# Altium integrated library TI Power Management Power Modules.IntLib: 831 symbols (part 21 of 44)
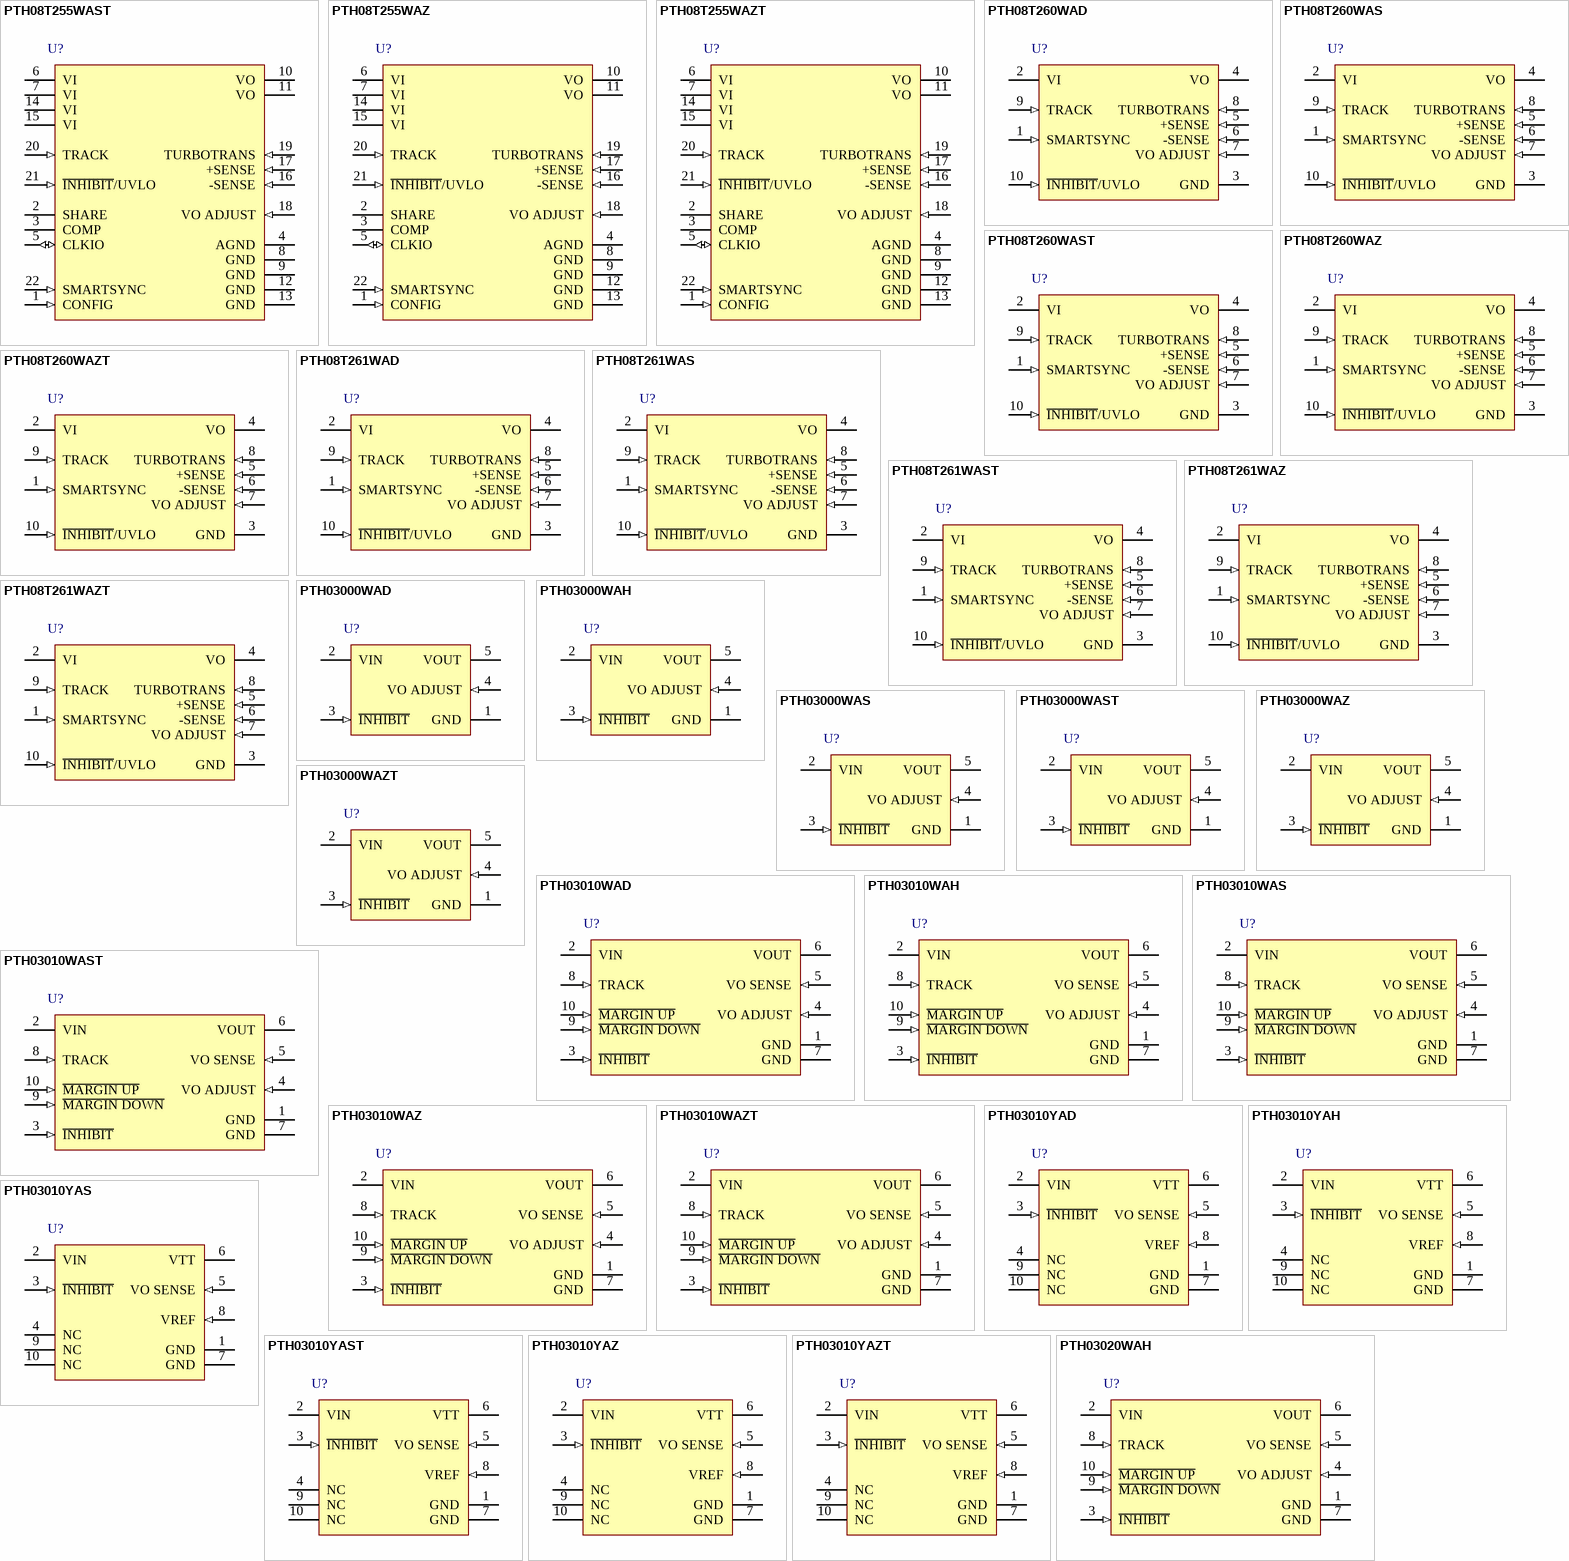
[diagram p43: symbols PTH08T255WAST to PTH03020WAH]

## PTH08T260WAZ
designator U?
3 A, 4.5 to 14 V Input, Non-Isolated, Wide Output, Adjustable Power Module with TurboTrans, -40 to 85 degC, 10-pin Module (BCM10), Pb-Free (RoHS); Manufacturer: Texas Instruments; PartNumber: PTH08T260WAZ; Iout(Max)(A): 3; Regulated Outputs(#): 1; SubFamily: Non-Isolated POL; Vin(Max)(V): 14; Vin(Min)(V): 4.5; VO Adjustable: TRUE; Vout(Max)(V): 5.5; Vout(Min)(V): 0.69; DatasheetVersion: SLTS272G; PackageVersion: 4207915/E; PackageReference: BCM10; PackageDescription: 10-Pin Plastic Special Shape, Body 15.75 x 18.92 mm; Supplier 1: Digi-Key; Supplier Part Number 1: 296-21406-ND; Supplier 2: Newark; Supplier Part Number 2: 27M0672; Supplier 3: Mouser; Supplier Part Number 3: 595-PTH08T260WAZ; Eco-Plan: Pb-Free (RoHS); Mounting Technology: Surface Mount; ComponentLink1Description: Manufacturer URL; ComponentLink1URL: http://www.ti.com/; ComponentLink2Description: Datasheet; ComponentLink2URL: http://www.ti.com/general/docs/lit/getliterature.tsp?genericPartNumber=PTH08T260W&fileType=pdf; ComponentLink3Description: Package Specification; ComponentLink3URL: http://www.ti.com/lit/ml/mpds292d/mpds292d.pdf; ComponentLink4Description: URL Link1; ComponentLink4URL: Samples URL:http://www.ti.com/product/pth08t260w#samples
footprint TI-BCM10_V (10-Leads Double Sided Module, Body 18.92x15.75mm)
pins: 1 SMARTSYNC (in) "This input pin sychronizes the switching frequency of the module to an external clock frequency. The SmartSync feature can be used to sychronize the switching fequency of multiple PTH04T230/231W modules, aiding EMI noise (See Datasheet)", 2 VI (power) "The positive input voltage power node to the module, which is referenced to common GND.", 3 GND (power) "This is the common ground connection for the VI and VO power connections. It is also the 0 Vdc reference for the control inputs.", 4 VO (power) "The regulated positive power output with respect to the GND", 5 +SENSE (in) "The sense input allows the regulation circuit to compensate for voltage drop between the module and the load. For optimal voltage accuracy, +Sense must be connected to VO, close to the load.", 6 -SENSE (in) "The sense input allows the regulation circuit to compensate for voltage drop between the module and the load. For optimal voltage accuracy, -Sense must be connected to GND (pin 3), very close to the module (within 10 cm).", 7 VO ADJUST (in) "A 0.05 W 1% resistor must be directly connected between this pin and pin 6 (- Sense) to set the output voltage to a value higher than 0.69 V. The temperature stability of the resistor should be 100 ppm/degreesC (or better). (See Datasheet)", 8 TURBOTRANS (in) "This input pin adjusts the transient response of the regulator. To activate the TurboTrans feature, a 1%, 0.05 W resistor must be connected between this pin and pin 5 (+Sense) very close to the module. For a given value of (See Datasheet)", 9 TRACK (in) "This is an analog control input that enables the output voltage to follow an external voltage. This pin becomes active typically 20 ms after the input voltage has been applied, and allows direct control of the output voltage (See Datasheet)", 10 ~{INHIBIT}/UVLO (in) "The Inhibit pin is an open-collector/drain, negative logic input that is referenced to GND. Applying a low level ground signal to this input disables the module’s output and turns off the output voltage. When the Inhibit (See Datasheet)"

## PTH08T260WAZT
designator U?
3 A, 4.5 to 14 V Input, Non-Isolated, Wide Output, Adjustable Power Module with TurboTrans, -40 to 85 degC, 10-pin Module (BCM10), Pb-Free (RoHS); Manufacturer: Texas Instruments; PartNumber: PTH08T260WAZT; Iout(Max)(A): 3; Regulated Outputs(#): 1; SubFamily: Non-Isolated POL; Vin(Max)(V): 14; Vin(Min)(V): 4.5; VO Adjustable: TRUE; Vout(Max)(V): 5.5; Vout(Min)(V): 0.69; DatasheetVersion: SLTS272G; PackageVersion: 4207915/E; PackageReference: BCM10; PackageDescription: 10-Pin Plastic Special Shape, Body 15.75 x 18.92 mm; Supplier 1: Digi-Key; Supplier Part Number 1: PTH08T260WAZT-ND; Supplier 2: Newark; Supplier Part Number 2: 27M0673; Supplier 3: Mouser; Supplier Part Number 3: 595-PTH08T260WAZT; Eco-Plan: Pb-Free (RoHS); Mounting Technology: Surface Mount; ComponentLink1Description: Manufacturer URL; ComponentLink1URL: http://www.ti.com/; ComponentLink2Description: Datasheet; ComponentLink2URL: http://www.ti.com/general/docs/lit/getliterature.tsp?genericPartNumber=PTH08T260W&fileType=pdf; ComponentLink3Description: Package Specification; ComponentLink3URL: http://www.ti.com/lit/ml/mpds292d/mpds292d.pdf; ComponentLink4Description: URL Link1; ComponentLink4URL: Samples URL:http://www.ti.com/product/pth08t260w#samples
footprint TI-BCM10_V (10-Leads Double Sided Module, Body 18.92x15.75mm)
pins: 1 SMARTSYNC (in) "This input pin sychronizes the switching frequency of the module to an external clock frequency. The SmartSync feature can be used to sychronize the switching fequency of multiple PTH04T230/231W modules, aiding EMI noise (See Datasheet)", 2 VI (power) "The positive input voltage power node to the module, which is referenced to common GND.", 3 GND (power) "This is the common ground connection for the VI and VO power connections. It is also the 0 Vdc reference for the control inputs.", 4 VO (power) "The regulated positive power output with respect to the GND", 5 +SENSE (in) "The sense input allows the regulation circuit to compensate for voltage drop between the module and the load. For optimal voltage accuracy, +Sense must be connected to VO, close to the load.", 6 -SENSE (in) "The sense input allows the regulation circuit to compensate for voltage drop between the module and the load. For optimal voltage accuracy, -Sense must be connected to GND (pin 3), very close to the module (within 10 cm).", 7 VO ADJUST (in) "A 0.05 W 1% resistor must be directly connected between this pin and pin 6 (- Sense) to set the output voltage to a value higher than 0.69 V. The temperature stability of the resistor should be 100 ppm/degreesC (or better). (See Datasheet)", 8 TURBOTRANS (in) "This input pin adjusts the transient response of the regulator. To activate the TurboTrans feature, a 1%, 0.05 W resistor must be connected between this pin and pin 5 (+Sense) very close to the module. For a given value of (See Datasheet)", 9 TRACK (in) "This is an analog control input that enables the output voltage to follow an external voltage. This pin becomes active typically 20 ms after the input voltage has been applied, and allows direct control of the output voltage (See Datasheet)", 10 ~{INHIBIT}/UVLO (in) "The Inhibit pin is an open-collector/drain, negative logic input that is referenced to GND. Applying a low level ground signal to this input disables the module’s output and turns off the output voltage. When the Inhibit (See Datasheet)"

## PTH08T261WAD
designator U?
3 A, 4.5 to 14 V Input, Ceramic Cap Version, Non-Iso, Wide Output, Adjust Power Module with TurboTrans, -40 to 85 degC, 10-pin Module (ECL10), Pb-Free (RoHS); Manufacturer: Texas Instruments; PartNumber: PTH08T261WAD; Iout(Max)(A): 3; Regulated Outputs(#): 1; SubFamily: Non-Isolated POL; Vin(Max)(V): 14; Vin(Min)(V): 4.5; VO Adjustable: TRUE; Vout(Max)(V): 5.5; Vout(Min)(V): 0.69; DatasheetVersion: SLTS272G; PackageVersion: 4207913/D; PackageReference: ECL10; PackageDescription: 10-Pin Plastic Special Shape, Body 15.75 x 18.92 mm; Supplier 1: Digi-Key; Supplier Part Number 1: 296-21539-ND; Supplier 2: Farnell; Supplier Part Number 2: 1659629; Supplier 3: Newark; Supplier Part Number 3: 12P7789; Supplier 4: Newark; Supplier Part Number 4: 31M0359; Supplier 5: Mouser; Supplier Part Number 5: 595-PTH08T261WAD; Eco-Plan: Pb-Free (RoHS); Mounting Technology: Through Hole; ComponentLink1Description: Manufacturer URL; ComponentLink1URL: http://www.ti.com/; ComponentLink2Description: Datasheet; ComponentLink2URL: http://www.ti.com/general/docs/lit/getliterature.tsp?genericPartNumber=PTH08T261W&fileType=pdf; ComponentLink3Description: Package Specification; ComponentLink3URL: http://www.ti.com/litv/pdf/mpds290c; ComponentLink4Description: URL Link1; ComponentLink4URL: Samples URL:http://www.ti.com/product/pth08t261w#samples
footprint TI-ECL10_V (Module, 10-Leads, Body 18.92x15.75 mm)
pins: 1 SMARTSYNC (in) "This input pin sychronizes the switching frequency of the module to an external clock frequency. The SmartSync feature can be used to sychronize the switching fequency of multiple PTH04T230/231W modules, aiding EMI noise (See Datasheet)", 2 VI (power) "The positive input voltage power node to the module, which is referenced to common GND.", 3 GND (power) "This is the common ground connection for the VI and VO power connections. It is also the 0 Vdc reference for the control inputs.", 4 VO (power) "The regulated positive power output with respect to the GND", 5 +SENSE (in) "The sense input allows the regulation circuit to compensate for voltage drop between the module and the load. For optimal voltage accuracy, +Sense must be connected to VO, close to the load.", 6 -SENSE (in) "The sense input allows the regulation circuit to compensate for voltage drop between the module and the load. For optimal voltage accuracy, -Sense must be connected to GND (pin 3), very close to the module (within 10 cm).", 7 VO ADJUST (in) "A 0.05 W 1% resistor must be directly connected between this pin and pin 6 (- Sense) to set the output voltage to a value higher than 0.69 V. The temperature stability of the resistor should be 100 ppm/degreesC (or better). (See Datasheet)", 8 TURBOTRANS (in) "This input pin adjusts the transient response of the regulator. To activate the TurboTrans feature, a 1%, 0.05 W resistor must be connected between this pin and pin 5 (+Sense) very close to the module. For a given value of (See Datasheet)", 9 TRACK (in) "This is an analog control input that enables the output voltage to follow an external voltage. This pin becomes active typically 20 ms after the input voltage has been applied, and allows direct control of the output voltage (See Datasheet)", 10 ~{INHIBIT}/UVLO (in) "The Inhibit pin is an open-collector/drain, negative logic input that is referenced to GND. Applying a low level ground signal to this input disables the module’s output and turns off the output voltage. When the Inhibit (See Datasheet)"

## PTH08T261WAS
designator U?
3 A, 4.5 to 14 V Input, Ceramic Cap Version, Non-Iso, Wide Output, Adjust Power Module with TurboTrans, -40 to 85 degC, 10-pin Module (ECM10); Manufacturer: Texas Instruments; PartNumber: PTH08T261WAS; Eco-Plan: TBD; Iout(Max)(A): 3; Regulated Outputs(#): 1; SubFamily: Non-Isolated POL; Vin(Max)(V): 14; Vin(Min)(V): 4.5; VO Adjustable: TRUE; Vout(Max)(V): 5.5; Vout(Min)(V): 0.69; DatasheetVersion: SLTS272G; PackageVersion: 4207914/E; PackageReference: ECM10; PackageDescription: 10-Pin Plastic Special Shape, Body 15.75 x 18.92 mm; Supplier 1: Digi-Key; Supplier Part Number 1: 296-21540-ND; Supplier 2: Newark; Supplier Part Number 2: 31M0360; Supplier 3: Mouser; Supplier Part Number 3: 595-PTH08T261WAS; Mounting Technology: Surface Mount; ComponentLink1Description: Manufacturer URL; ComponentLink1URL: http://www.ti.com/; ComponentLink2Description: Datasheet; ComponentLink2URL: http://www.ti.com/general/docs/lit/getliterature.tsp?genericPartNumber=PTH08T261W&fileType=pdf; ComponentLink3Description: Package Specification; ComponentLink3URL: http://www.ti.com/litv/pdf/mpds291d; ComponentLink4Description: URL Link1; ComponentLink4URL: Samples URL:http://www.ti.com/product/pth08t261w#samples
footprint TI-ECM10_V (Module, 10-Leads, Body 18.92x15.75mm)
pins: 1 SMARTSYNC (in) "This input pin sychronizes the switching frequency of the module to an external clock frequency. The SmartSync feature can be used to sychronize the switching fequency of multiple PTH04T230/231W modules, aiding EMI noise (See Datasheet)", 2 VI (power) "The positive input voltage power node to the module, which is referenced to common GND.", 3 GND (power) "This is the common ground connection for the VI and VO power connections. It is also the 0 Vdc reference for the control inputs.", 4 VO (power) "The regulated positive power output with respect to the GND", 5 +SENSE (in) "The sense input allows the regulation circuit to compensate for voltage drop between the module and the load. For optimal voltage accuracy, +Sense must be connected to VO, close to the load.", 6 -SENSE (in) "The sense input allows the regulation circuit to compensate for voltage drop between the module and the load. For optimal voltage accuracy, -Sense must be connected to GND (pin 3), very close to the module (within 10 cm).", 7 VO ADJUST (in) "A 0.05 W 1% resistor must be directly connected between this pin and pin 6 (- Sense) to set the output voltage to a value higher than 0.69 V. The temperature stability of the resistor should be 100 ppm/degreesC (or better). (See Datasheet)", 8 TURBOTRANS (in) "This input pin adjusts the transient response of the regulator. To activate the TurboTrans feature, a 1%, 0.05 W resistor must be connected between this pin and pin 5 (+Sense) very close to the module. For a given value of (See Datasheet)", 9 TRACK (in) "This is an analog control input that enables the output voltage to follow an external voltage. This pin becomes active typically 20 ms after the input voltage has been applied, and allows direct control of the output voltage (See Datasheet)", 10 ~{INHIBIT}/UVLO (in) "The Inhibit pin is an open-collector/drain, negative logic input that is referenced to GND. Applying a low level ground signal to this input disables the module’s output and turns off the output voltage. When the Inhibit (See Datasheet)"

## PTH08T261WAST
designator U?
3 A, 4.5 to 14 V Input, Ceramic Cap Version, Non-Iso, Wide Output, Adjust Power Module with TurboTrans, -40 to 85 degC, 10-pin Module (ECM10); Manufacturer: Texas Instruments; PartNumber: PTH08T261WAST; Eco-Plan: TBD; Iout(Max)(A): 3; Regulated Outputs(#): 1; SubFamily: Non-Isolated POL; Vin(Max)(V): 14; Vin(Min)(V): 4.5; VO Adjustable: TRUE; Vout(Max)(V): 5.5; Vout(Min)(V): 0.69; DatasheetVersion: SLTS272G; PackageVersion: 4207914/E; PackageReference: ECM10; PackageDescription: 10-Pin Plastic Special Shape, Body 15.75 x 18.92 mm; Supplier 1: Digi-Key; Supplier Part Number 1: PTH08T261WAST-ND; Supplier 2: Mouser; Supplier Part Number 2: 595-PTH08T261WAST; Mounting Technology: Surface Mount; ComponentLink1Description: Manufacturer URL; ComponentLink1URL: http://www.ti.com/; ComponentLink2Description: Datasheet; ComponentLink2URL: http://www.ti.com/general/docs/lit/getliterature.tsp?genericPartNumber=PTH08T261W&fileType=pdf; ComponentLink3Description: Package Specification; ComponentLink3URL: http://www.ti.com/litv/pdf/mpds291d; ComponentLink4Description: URL Link1; ComponentLink4URL: Samples URL:http://www.ti.com/product/pth08t261w#samples
footprint TI-ECM10_V (Module, 10-Leads, Body 18.92x15.75mm)
pins: 1 SMARTSYNC (in) "This input pin sychronizes the switching frequency of the module to an external clock frequency. The SmartSync feature can be used to sychronize the switching fequency of multiple PTH04T230/231W modules, aiding EMI noise (See Datasheet)", 2 VI (power) "The positive input voltage power node to the module, which is referenced to common GND.", 3 GND (power) "This is the common ground connection for the VI and VO power connections. It is also the 0 Vdc reference for the control inputs.", 4 VO (power) "The regulated positive power output with respect to the GND", 5 +SENSE (in) "The sense input allows the regulation circuit to compensate for voltage drop between the module and the load. For optimal voltage accuracy, +Sense must be connected to VO, close to the load.", 6 -SENSE (in) "The sense input allows the regulation circuit to compensate for voltage drop between the module and the load. For optimal voltage accuracy, -Sense must be connected to GND (pin 3), very close to the module (within 10 cm).", 7 VO ADJUST (in) "A 0.05 W 1% resistor must be directly connected between this pin and pin 6 (- Sense) to set the output voltage to a value higher than 0.69 V. The temperature stability of the resistor should be 100 ppm/degreesC (or better). (See Datasheet)", 8 TURBOTRANS (in) "This input pin adjusts the transient response of the regulator. To activate the TurboTrans feature, a 1%, 0.05 W resistor must be connected between this pin and pin 5 (+Sense) very close to the module. For a given value of (See Datasheet)", 9 TRACK (in) "This is an analog control input that enables the output voltage to follow an external voltage. This pin becomes active typically 20 ms after the input voltage has been applied, and allows direct control of the output voltage (See Datasheet)", 10 ~{INHIBIT}/UVLO (in) "The Inhibit pin is an open-collector/drain, negative logic input that is referenced to GND. Applying a low level ground signal to this input disables the module’s output and turns off the output voltage. When the Inhibit (See Datasheet)"

## PTH08T261WAZ
designator U?
3 A, 4.5 to 14 V Input, Ceramic Cap Version, Non-Iso, Wide Output, Adjust Power Module with TurboTrans, -40 to 85 degC, 10-pin Module (BCM10), Pb-Free (RoHS); Manufacturer: Texas Instruments; PartNumber: PTH08T261WAZ; Iout(Max)(A): 3; Regulated Outputs(#): 1; SubFamily: Non-Isolated POL; Vin(Max)(V): 14; Vin(Min)(V): 4.5; VO Adjustable: TRUE; Vout(Max)(V): 5.5; Vout(Min)(V): 0.69; DatasheetVersion: SLTS272G; PackageVersion: 4207915/E; PackageReference: BCM10; PackageDescription: 10-Pin Plastic Special Shape, Body 15.75 x 18.92 mm; Supplier 1: Digi-Key; Supplier Part Number 1: 296-21590-ND; Supplier 2: Newark; Supplier Part Number 2: 31M0362; Supplier 3: Mouser; Supplier Part Number 3: 595-PTH08T261WAZ; Eco-Plan: Pb-Free (RoHS); Mounting Technology: Surface Mount; ComponentLink1Description: Manufacturer URL; ComponentLink1URL: http://www.ti.com/; ComponentLink2Description: Datasheet; ComponentLink2URL: http://www.ti.com/general/docs/lit/getliterature.tsp?genericPartNumber=PTH08T261W&fileType=pdf; ComponentLink3Description: Package Specification; ComponentLink3URL: http://www.ti.com/lit/ml/mpds292d/mpds292d.pdf; ComponentLink4Description: URL Link1; ComponentLink4URL: Samples URL:http://www.ti.com/product/pth08t261w#samples
footprint TI-BCM10_V (10-Leads Double Sided Module, Body 18.92x15.75mm)
pins: 1 SMARTSYNC (in) "This input pin sychronizes the switching frequency of the module to an external clock frequency. The SmartSync feature can be used to sychronize the switching fequency of multiple PTH04T230/231W modules, aiding EMI noise (See Datasheet)", 2 VI (power) "The positive input voltage power node to the module, which is referenced to common GND.", 3 GND (power) "This is the common ground connection for the VI and VO power connections. It is also the 0 Vdc reference for the control inputs.", 4 VO (power) "The regulated positive power output with respect to the GND", 5 +SENSE (in) "The sense input allows the regulation circuit to compensate for voltage drop between the module and the load. For optimal voltage accuracy, +Sense must be connected to VO, close to the load.", 6 -SENSE (in) "The sense input allows the regulation circuit to compensate for voltage drop between the module and the load. For optimal voltage accuracy, -Sense must be connected to GND (pin 3), very close to the module (within 10 cm).", 7 VO ADJUST (in) "A 0.05 W 1% resistor must be directly connected between this pin and pin 6 (- Sense) to set the output voltage to a value higher than 0.69 V. The temperature stability of the resistor should be 100 ppm/degreesC (or better). (See Datasheet)", 8 TURBOTRANS (in) "This input pin adjusts the transient response of the regulator. To activate the TurboTrans feature, a 1%, 0.05 W resistor must be connected between this pin and pin 5 (+Sense) very close to the module. For a given value of (See Datasheet)", 9 TRACK (in) "This is an analog control input that enables the output voltage to follow an external voltage. This pin becomes active typically 20 ms after the input voltage has been applied, and allows direct control of the output voltage (See Datasheet)", 10 ~{INHIBIT}/UVLO (in) "The Inhibit pin is an open-collector/drain, negative logic input that is referenced to GND. Applying a low level ground signal to this input disables the module’s output and turns off the output voltage. When the Inhibit (See Datasheet)"

## PTH08T261WAZT
designator U?
3 A, 4.5 to 14 V Input, Ceramic Cap Version, Non-Iso, Wide Output, Adjust Power Module with TurboTrans, -40 to 85 degC, 10-pin Module (BCM10), Pb-Free (RoHS); Manufacturer: Texas Instruments; PartNumber: PTH08T261WAZT; Iout(Max)(A): 3; Regulated Outputs(#): 1; SubFamily: Non-Isolated POL; Vin(Max)(V): 14; Vin(Min)(V): 4.5; VO Adjustable: TRUE; Vout(Max)(V): 5.5; Vout(Min)(V): 0.69; DatasheetVersion: SLTS272G; PackageVersion: 4207915/E; PackageReference: BCM10; PackageDescription: 10-Pin Plastic Special Shape, Body 15.75 x 18.92 mm; Supplier 1: Digi-Key; Supplier Part Number 1: PTH08T261WAZT-ND; Supplier 2: Newark; Supplier Part Number 2: 31M0363; Supplier 3: Mouser; Supplier Part Number 3: 595-PTH08T261WAZT; Eco-Plan: Pb-Free (RoHS); Mounting Technology: Surface Mount; ComponentLink1Description: Manufacturer URL; ComponentLink1URL: http://www.ti.com/; ComponentLink2Description: Datasheet; ComponentLink2URL: http://www.ti.com/general/docs/lit/getliterature.tsp?genericPartNumber=PTH08T261W&fileType=pdf; ComponentLink3Description: Package Specification; ComponentLink3URL: http://www.ti.com/lit/ml/mpds292d/mpds292d.pdf; ComponentLink4Description: URL Link1; ComponentLink4URL: Samples URL:http://www.ti.com/product/pth08t261w#samples
footprint TI-BCM10_V (10-Leads Double Sided Module, Body 18.92x15.75mm)
pins: 1 SMARTSYNC (in) "This input pin sychronizes the switching frequency of the module to an external clock frequency. The SmartSync feature can be used to sychronize the switching fequency of multiple PTH04T230/231W modules, aiding EMI noise (See Datasheet)", 2 VI (power) "The positive input voltage power node to the module, which is referenced to common GND.", 3 GND (power) "This is the common ground connection for the VI and VO power connections. It is also the 0 Vdc reference for the control inputs.", 4 VO (power) "The regulated positive power output with respect to the GND", 5 +SENSE (in) "The sense input allows the regulation circuit to compensate for voltage drop between the module and the load. For optimal voltage accuracy, +Sense must be connected to VO, close to the load.", 6 -SENSE (in) "The sense input allows the regulation circuit to compensate for voltage drop between the module and the load. For optimal voltage accuracy, -Sense must be connected to GND (pin 3), very close to the module (within 10 cm).", 7 VO ADJUST (in) "A 0.05 W 1% resistor must be directly connected between this pin and pin 6 (- Sense) to set the output voltage to a value higher than 0.69 V. The temperature stability of the resistor should be 100 ppm/degreesC (or better). (See Datasheet)", 8 TURBOTRANS (in) "This input pin adjusts the transient response of the regulator. To activate the TurboTrans feature, a 1%, 0.05 W resistor must be connected between this pin and pin 5 (+Sense) very close to the module. For a given value of (See Datasheet)", 9 TRACK (in) "This is an analog control input that enables the output voltage to follow an external voltage. This pin becomes active typically 20 ms after the input voltage has been applied, and allows direct control of the output voltage (See Datasheet)", 10 ~{INHIBIT}/UVLO (in) "The Inhibit pin is an open-collector/drain, negative logic input that is referenced to GND. Applying a low level ground signal to this input disables the module’s output and turns off the output voltage. When the Inhibit (See Datasheet)"

## PTH03000WAD
designator U?
6 A, 3.3 V Input Wide-Output Adjust Plug-in Power Module, -40 to 85 degC, 5-pin Module (EUS5), Pb-Free (RoHS); Manufacturer: Texas Instruments; PartNumber: PTH03000WAD; Iout(Max)(A): 6; Regulated Outputs(#): 1; SubFamily: Non-Isolated POL; Vin(Max)(V): 3.6; Vin(Min)(V): 3; VO Adjustable: TRUE; Vout(Max)(V): 2.5; Vout(Min)(V): 0.9; DatasheetVersion: SLTS200C; PackageVersion: 4204990-2/C; PackageReference: EUS5; PackageDescription: 5-Pin Plastic Special Shape, Body 12.57 x 18.92 mm; Supplier 1: Digi-Key; Supplier Part Number 1: 296-32711-ND; Supplier 2: Farnell; Supplier Part Number 2: 1103270; Supplier 3: Newark; Supplier Part Number 3: 69K0177; Supplier 4: Mouser; Supplier Part Number 4: 595-PTH03000WAD; Eco-Plan: Pb-Free (RoHS); Mounting Technology: Through Hole; ComponentLink1Description: Manufacturer URL; ComponentLink1URL: http://www.ti.com/; ComponentLink2Description: Datasheet; ComponentLink2URL: http://www.ti.com/general/docs/lit/getliterature.tsp?genericPartNumber=PTH03000W&fileType=pdf; ComponentLink3Description: Package Specification; ComponentLink3URL: http://www.ti.com/litv/pdf/mpds139b; ComponentLink4Description: URL Link1; ComponentLink4URL: Samples URL:http://www.ti.com/product/pth03000w#samples
footprint TI-EUS5_V (5-Leads, Plastic Special Shape, Body 18.92x12.57mm)
pins: 1 GND (power) "This is the common ground connection for the‘Vin’ and ‘Vout’ power connections. It is also the 0 VDC reference for the ‘Inhibit’ and ‘Vo Adjust’ control input.", 2 VIN (power) "The positive input voltage power node to the module, which is referenced to common GND.", 3 ~{INHIBIT} (in) "The Inhibit pin is an open-collector/drain negative logic input that is referenced to GND. Applying a lowlevel ground signal to this input disables the module’s output and turns off the output voltage. When the Inhibit (See Datasheet)", 4 VO ADJUST (in) "A 0.1 W 1 % resistor must be directly connected between this pin and the GND pin to set the output voltage to a value higher than 0.9 V. The temperature stability of the resistor should be 100 ppm/degreesC (or better). The (See Datasheet)", 5 VOUT (power) "The regulated positive power output with respect to the GND node."

## PTH03000WAH
designator U?
6 A, 3.3 V Input Wide-Output Adjust Plug-in Power Module, -40 to 85 degC, 5-pin Module (EUS5), Pb-Free (RoHS); Manufacturer: Texas Instruments; PartNumber: PTH03000WAH; Iout(Max)(A): 6; Regulated Outputs(#): 1; SubFamily: Non-Isolated POL; Vin(Max)(V): 3.6; Vin(Min)(V): 3; VO Adjustable: TRUE; Vout(Max)(V): 2.5; Vout(Min)(V): 0.9; DatasheetVersion: SLTS200C; PackageVersion: 4204990-2/C; PackageReference: EUS5; PackageDescription: 5-Pin Plastic Special Shape, Body 12.57 x 18.92 mm; Supplier 1: Digi-Key; Supplier Part Number 1: 296-20366-ND; Supplier 2: Farnell; Supplier Part Number 2: 1231998; Supplier 3: Newark; Supplier Part Number 3: 80K6125; Supplier 4: Mouser; Supplier Part Number 4: 595-PTH03000WAH; Eco-Plan: Pb-Free (RoHS); Mounting Technology: Through Hole; ComponentLink1Description: Manufacturer URL; ComponentLink1URL: http://www.ti.com/; ComponentLink2Description: Datasheet; ComponentLink2URL: http://www.ti.com/general/docs/lit/getliterature.tsp?genericPartNumber=PTH03000W&fileType=pdf; ComponentLink3Description: Package Specification; ComponentLink3URL: http://www.ti.com/litv/pdf/mpds139b; ComponentLink4Description: URL Link1; ComponentLink4URL: Samples URL:http://www.ti.com/product/pth03000w#samples
footprint TI-EUS5_V (5-Leads, Plastic Special Shape, Body 18.92x12.57mm)
pins: 1 GND (power) "This is the common ground connection for the‘Vin’ and ‘Vout’ power connections. It is also the 0 VDC reference for the ‘Inhibit’ and ‘Vo Adjust’ control input.", 2 VIN (power) "The positive input voltage power node to the module, which is referenced to common GND.", 3 ~{INHIBIT} (in) "The Inhibit pin is an open-collector/drain negative logic input that is referenced to GND. Applying a lowlevel ground signal to this input disables the module’s output and turns off the output voltage. When the Inhibit (See Datasheet)", 4 VO ADJUST (in) "A 0.1 W 1 % resistor must be directly connected between this pin and the GND pin to set the output voltage to a value higher than 0.9 V. The temperature stability of the resistor should be 100 ppm/degreesC (or better). The (See Datasheet)", 5 VOUT (power) "The regulated positive power output with respect to the GND node."

## PTH03000WAS
designator U?
6 A, 3.3 V Input Wide-Output Adjust Plug-in Power Module, -40 to 85 degC, 5-pin Module (EUT5); Manufacturer: Texas Instruments; PartNumber: PTH03000WAS; Eco-Plan: TBD; Iout(Max)(A): 6; Regulated Outputs(#): 1; SubFamily: Non-Isolated POL; Vin(Max)(V): 3.6; Vin(Min)(V): 3; VO Adjustable: TRUE; Vout(Max)(V): 2.5; Vout(Min)(V): 0.9; DatasheetVersion: SLTS200C; PackageVersion: 4204991-2/C; PackageReference: EUT5; PackageDescription: 5-Pin Plastic Special Shape, Body 12.57 x 18.92 mm; Supplier 1: Digi-Key; Supplier Part Number 1: 296-20367-ND; Supplier 2: Newark; Supplier Part Number 2: 82H5354; Supplier 3: Mouser; Supplier Part Number 3: 595-PTH03000WAS; Mounting Technology: Surface Mount; ComponentLink1Description: Manufacturer URL; ComponentLink1URL: http://www.ti.com/; ComponentLink2Description: Datasheet; ComponentLink2URL: http://www.ti.com/general/docs/lit/getliterature.tsp?genericPartNumber=PTH03000W&fileType=pdf; ComponentLink3Description: Package Specification; ComponentLink3URL: http://www.ti.com/lit/ml/mpds140b/mpds140b.pdf; ComponentLink4Description: URL Link1; ComponentLink4URL: Samples URL:http://www.ti.com/product/pth03000w#samples
footprint TI-EUT5_V (Module, 5-Leads, Body 18.92x12.57 mm)
pins: 1 GND (power) "This is the common ground connection for the‘Vin’ and ‘Vout’ power connections. It is also the 0 VDC reference for the ‘Inhibit’ and ‘Vo Adjust’ control input.", 2 VIN (power) "The positive input voltage power node to the module, which is referenced to common GND.", 3 ~{INHIBIT} (in) "The Inhibit pin is an open-collector/drain negative logic input that is referenced to GND. Applying a lowlevel ground signal to this input disables the module’s output and turns off the output voltage. When the Inhibit (See Datasheet)", 4 VO ADJUST (in) "A 0.1 W 1 % resistor must be directly connected between this pin and the GND pin to set the output voltage to a value higher than 0.9 V. The temperature stability of the resistor should be 100 ppm/degreesC (or better). The (See Datasheet)", 5 VOUT (power) "The regulated positive power output with respect to the GND node."

## PTH03000WAST
designator U?
6 A, 3.3 V Input Wide-Output Adjust Plug-in Power Module, -40 to 85 degC, 5-pin Module (EUT5); Manufacturer: Texas Instruments; PartNumber: PTH03000WAST; Eco-Plan: TBD; Iout(Max)(A): 6; Regulated Outputs(#): 1; SubFamily: Non-Isolated POL; Vin(Max)(V): 3.6; Vin(Min)(V): 3; VO Adjustable: TRUE; Vout(Max)(V): 2.5; Vout(Min)(V): 0.9; DatasheetVersion: SLTS200C; PackageVersion: 4204991-2/C; PackageReference: EUT5; PackageDescription: 5-Pin Plastic Special Shape, Body 12.57 x 18.92 mm; Supplier 1: Digi-Key; Supplier Part Number 1: PTH03000WAST-ND; Supplier 2: Newark; Supplier Part Number 2: 01J0621; Supplier 3: Mouser; Supplier Part Number 3: 595-PTH03000WAST; Mounting Technology: Surface Mount; ComponentLink1Description: Manufacturer URL; ComponentLink1URL: http://www.ti.com/; ComponentLink2Description: Datasheet; ComponentLink2URL: http://www.ti.com/general/docs/lit/getliterature.tsp?genericPartNumber=PTH03000W&fileType=pdf; ComponentLink3Description: Package Specification; ComponentLink3URL: http://www.ti.com/lit/ml/mpds140b/mpds140b.pdf; ComponentLink4Description: URL Link1; ComponentLink4URL: Samples URL:http://www.ti.com/product/pth03000w#samples
footprint TI-EUT5_V (Module, 5-Leads, Body 18.92x12.57 mm)
pins: 1 GND (power) "This is the common ground connection for the‘Vin’ and ‘Vout’ power connections. It is also the 0 VDC reference for the ‘Inhibit’ and ‘Vo Adjust’ control input.", 2 VIN (power) "The positive input voltage power node to the module, which is referenced to common GND.", 3 ~{INHIBIT} (in) "The Inhibit pin is an open-collector/drain negative logic input that is referenced to GND. Applying a lowlevel ground signal to this input disables the module’s output and turns off the output voltage. When the Inhibit (See Datasheet)", 4 VO ADJUST (in) "A 0.1 W 1 % resistor must be directly connected between this pin and the GND pin to set the output voltage to a value higher than 0.9 V. The temperature stability of the resistor should be 100 ppm/degreesC (or better). The (See Datasheet)", 5 VOUT (power) "The regulated positive power output with respect to the GND node."

## PTH03000WAZ
designator U?
6 A, 3.3 V Input Wide-Output Adjust Plug-in Power Module, -40 to 85 degC, 5-pin Module (EUT5), Pb-Free (RoHS); Manufacturer: Texas Instruments; PartNumber: PTH03000WAZ; Iout(Max)(A): 6; Regulated Outputs(#): 1; SubFamily: Non-Isolated POL; Vin(Max)(V): 3.6; Vin(Min)(V): 3; VO Adjustable: TRUE; Vout(Max)(V): 2.5; Vout(Min)(V): 0.9; DatasheetVersion: SLTS200C; PackageVersion: 4204991-2/C; PackageReference: EUT5; PackageDescription: 5-Pin Plastic Special Shape, Body 12.57 x 18.92 mm; Supplier 1: Digi-Key; Supplier Part Number 1: 296-20368-ND; Supplier 2: Farnell; Supplier Part Number 2: 1103272; Supplier 3: Newark; Supplier Part Number 3: 37K0693; Supplier 4: Mouser; Supplier Part Number 4: 595-PTH03000WAZ; Eco-Plan: Pb-Free (RoHS); Mounting Technology: Surface Mount; ComponentLink1Description: Manufacturer URL; ComponentLink1URL: http://www.ti.com/; ComponentLink2Description: Datasheet; ComponentLink2URL: http://www.ti.com/general/docs/lit/getliterature.tsp?genericPartNumber=PTH03000W&fileType=pdf; ComponentLink3Description: Package Specification; ComponentLink3URL: http://www.ti.com/lit/ml/mpds140b/mpds140b.pdf; ComponentLink4Description: URL Link1; ComponentLink4URL: Samples URL:http://www.ti.com/product/pth03000w#samples
footprint TI-EUT5_V (Module, 5-Leads, Body 18.92x12.57 mm)
pins: 1 GND (power) "This is the common ground connection for the‘Vin’ and ‘Vout’ power connections. It is also the 0 VDC reference for the ‘Inhibit’ and ‘Vo Adjust’ control input.", 2 VIN (power) "The positive input voltage power node to the module, which is referenced to common GND.", 3 ~{INHIBIT} (in) "The Inhibit pin is an open-collector/drain negative logic input that is referenced to GND. Applying a lowlevel ground signal to this input disables the module’s output and turns off the output voltage. When the Inhibit (See Datasheet)", 4 VO ADJUST (in) "A 0.1 W 1 % resistor must be directly connected between this pin and the GND pin to set the output voltage to a value higher than 0.9 V. The temperature stability of the resistor should be 100 ppm/degreesC (or better). The (See Datasheet)", 5 VOUT (power) "The regulated positive power output with respect to the GND node."

## PTH03000WAZT
designator U?
6 A, 3.3 V Input Wide-Output Adjust Plug-in Power Module, -40 to 85 degC, 5-pin Module (EUT5), Pb-Free (RoHS); Manufacturer: Texas Instruments; PartNumber: PTH03000WAZT; Iout(Max)(A): 6; Regulated Outputs(#): 1; SubFamily: Non-Isolated POL; Vin(Max)(V): 3.6; Vin(Min)(V): 3; VO Adjustable: TRUE; Vout(Max)(V): 2.5; Vout(Min)(V): 0.9; DatasheetVersion: SLTS200C; PackageVersion: 4204991-2/C; PackageReference: EUT5; PackageDescription: 5-Pin Plastic Special Shape, Body 12.57 x 18.92 mm; Supplier 1: Digi-Key; Supplier Part Number 1: PTH03000WAZT-ND; Supplier 2: Newark; Supplier Part Number 2: 37K0694; Supplier 3: Mouser; Supplier Part Number 3: 595-PTH03000WAZT; Eco-Plan: Pb-Free (RoHS); Mounting Technology: Surface Mount; ComponentLink1Description: Manufacturer URL; ComponentLink1URL: http://www.ti.com/; ComponentLink2Description: Datasheet; ComponentLink2URL: http://www.ti.com/general/docs/lit/getliterature.tsp?genericPartNumber=PTH03000W&fileType=pdf; ComponentLink3Description: Package Specification; ComponentLink3URL: http://www.ti.com/lit/ml/mpds140b/mpds140b.pdf; ComponentLink4Description: URL Link1; ComponentLink4URL: Samples URL:http://www.ti.com/product/pth03000w
footprint TI-EUT5_V (Module, 5-Leads, Body 18.92x12.57 mm)
pins: 1 GND (power) "This is the common ground connection for the‘Vin’ and ‘Vout’ power connections. It is also the 0 VDC reference for the ‘Inhibit’ and ‘Vo Adjust’ control input.", 2 VIN (power) "The positive input voltage power node to the module, which is referenced to common GND.", 3 ~{INHIBIT} (in) "The Inhibit pin is an open-collector/drain negative logic input that is referenced to GND. Applying a lowlevel ground signal to this input disables the module’s output and turns off the output voltage. When the Inhibit (See Datasheet)", 4 VO ADJUST (in) "A 0.1 W 1 % resistor must be directly connected between this pin and the GND pin to set the output voltage to a value higher than 0.9 V. The temperature stability of the resistor should be 100 ppm/degreesC (or better). The (See Datasheet)", 5 VOUT (power) "The regulated positive power output with respect to the GND node."

## PTH03010WAD
designator U?
15 A, 3.3 V Input Non-Isolated Wide-Output Adjust Power Module, -40 to 85 degC, 10-pin Module (EUH10), Pb-Free (RoHS); Manufacturer: Texas Instruments; PartNumber: PTH03010WAD; Iout(Max)(A): 15; Regulated Outputs(#): 1; SubFamily: Non-Isolated POL; Vin(Max)(V): 3.65; Vin(Min)(V): 2.95; VO Adjustable: TRUE; Vout(Max)(V): 2.5; Vout(Min)(V): 0.8; DatasheetVersion: SLTS203C; PackageVersion: 4204984-3/E; PackageReference: EUH10; PackageDescription: 10-Pin Plastic Special Shape, Body 15.75 x 34.8 mm; Supplier 1: Digi-Key; Supplier Part Number 1: 296-32712-ND; Supplier 2: Farnell; Supplier Part Number 2: 1103277; Supplier 3: Newark; Supplier Part Number 3: 63K6091; Supplier 4: Mouser; Supplier Part Number 4: 595-PTH03010WAD; Eco-Plan: Pb-Free (RoHS); Mounting Technology: Through Hole; ComponentLink1Description: Manufacturer URL; ComponentLink1URL: http://www.ti.com/; ComponentLink2Description: Datasheet; ComponentLink2URL: http://www.ti.com/general/docs/lit/getliterature.tsp?genericPartNumber=PTH03010W&fileType=pdf; ComponentLink3Description: Package Specification; ComponentLink3URL: http://www.ti.com/litv/pdf/mpds130d; ComponentLink4Description: URL Link1; ComponentLink4URL: Samples URL:http://www.ti.com/product/pth03010w#samples
footprint TI-EUH10_V (Module, 10-Leads, Body 34.8x15.75 mm)
pins: 1 GND (power) "This is the common ground connection for the Vin and Vout power connections. It is also the 0 VDC reference for the control inputs", 2 VIN (power) "The positive input voltage power node to the module, which is referenced to common GND.", 3 ~{INHIBIT} (in) "The Inhibit pin is an open-collector/drain negative logic input that is referenced to GND. Applying a lowlevel ground signal to this input disables the module’s output and turns off the output voltage. When the Inhibit (See Datasheet)", 4 VO ADJUST (in) "A 0.1 W 1 % resistor must be directly connected between this pin and pin 7 (GND) to set the output voltage to a value higher than 0.8 V. The temperature stability of the resistor should be 100 ppm/degreesC (or better). The (See Datasheet)", 5 VO SENSE (in) "The sense input allows the regulation circuit to compensate for voltage drop between the module and the load. For optimal voltage accuracy Vo Sense should be connected to Vout. It can also be left disconnected.", 6 VOUT (power) "The regulated positive power output with respect to the GND node.", 7 GND (power) "This is the common ground connection for the Vin and Vout power connections. It is also the 0 VDC reference for the control inputs.", 8 TRACK (in) "This is an analog control input that enables the output voltage to follow an external voltage. This pin becomes active typically 20 ms after the input voltage has been applied, and allows direct control of the output voltage (See Datasheet)", 9 ~{MARGIN DOWN} (in) "When this input is asserted to GND, the output voltage is decreased by 5% from the nominal. The input requires an open-collector (open-drain) interface. It is not TTL compatible. A lower percent change can be accomodated (See Datasheet)", 10 ~{MARGIN UP} (in) "When this input is asserted to GND, the output voltage is increased by 5%. The input requires an open-collector (open-drain) interface. It is not TTL compatible. The percent change can be reduced with a series resistor. For (See Datasheet)"

## PTH03010WAH
designator U?
15 A, 3.3 V Input Non-Isolated Wide-Output Adjust Power Module, -40 to 85 degC, 10-pin Module (EUH10), Pb-Free (RoHS); Manufacturer: Texas Instruments; PartNumber: PTH03010WAH; Iout(Max)(A): 15; Regulated Outputs(#): 1; SubFamily: Non-Isolated POL; Vin(Max)(V): 3.65; Vin(Min)(V): 2.95; VO Adjustable: TRUE; Vout(Max)(V): 2.5; Vout(Min)(V): 0.8; DatasheetVersion: SLTS203C; PackageVersion: 4204984-3/E; PackageReference: EUH10; PackageDescription: 10-Pin Plastic Special Shape, Body 15.75 x 34.8 mm; Supplier 1: Digi-Key; Supplier Part Number 1: 296-20369-ND; Supplier 2: Newark; Supplier Part Number 2: 87H2503; Supplier 3: Mouser; Supplier Part Number 3: 595-PTH03010WAH; Eco-Plan: Pb-Free (RoHS); Mounting Technology: Through Hole; ComponentLink1Description: Manufacturer URL; ComponentLink1URL: http://www.ti.com/; ComponentLink2Description: Datasheet; ComponentLink2URL: http://www.ti.com/general/docs/lit/getliterature.tsp?genericPartNumber=PTH03010W&fileType=pdf; ComponentLink3Description: Package Specification; ComponentLink3URL: http://www.ti.com/litv/pdf/mpds130d; ComponentLink4Description: URL Link1; ComponentLink4URL: Samples URL:http://www.ti.com/product/pth03010w#samples
footprint TI-EUH10_V (Module, 10-Leads, Body 34.8x15.75 mm)
pins: 1 GND (power) "This is the common ground connection for the Vin and Vout power connections. It is also the 0 VDC reference for the control inputs", 2 VIN (power) "The positive input voltage power node to the module, which is referenced to common GND.", 3 ~{INHIBIT} (in) "The Inhibit pin is an open-collector/drain negative logic input that is referenced to GND. Applying a lowlevel ground signal to this input disables the module’s output and turns off the output voltage. When the Inhibit (See Datasheet)", 4 VO ADJUST (in) "A 0.1 W 1 % resistor must be directly connected between this pin and pin 7 (GND) to set the output voltage to a value higher than 0.8 V. The temperature stability of the resistor should be 100 ppm/degreesC (or better). The (See Datasheet)", 5 VO SENSE (in) "The sense input allows the regulation circuit to compensate for voltage drop between the module and the load. For optimal voltage accuracy Vo Sense should be connected to Vout. It can also be left disconnected.", 6 VOUT (power) "The regulated positive power output with respect to the GND node.", 7 GND (power) "This is the common ground connection for the Vin and Vout power connections. It is also the 0 VDC reference for the control inputs.", 8 TRACK (in) "This is an analog control input that enables the output voltage to follow an external voltage. This pin becomes active typically 20 ms after the input voltage has been applied, and allows direct control of the output voltage (See Datasheet)", 9 ~{MARGIN DOWN} (in) "When this input is asserted to GND, the output voltage is decreased by 5% from the nominal. The input requires an open-collector (open-drain) interface. It is not TTL compatible. A lower percent change can be accomodated (See Datasheet)", 10 ~{MARGIN UP} (in) "When this input is asserted to GND, the output voltage is increased by 5%. The input requires an open-collector (open-drain) interface. It is not TTL compatible. The percent change can be reduced with a series resistor. For (See Datasheet)"

## PTH03010WAS
designator U?
15 A, 3.3 V Input Non-Isolated Wide-Output Adjust Power Module, -40 to 85 degC, 10-pin Module (EUJ10); Manufacturer: Texas Instruments; PartNumber: PTH03010WAS; Eco-Plan: TBD; Iout(Max)(A): 15; Regulated Outputs(#): 1; SubFamily: Non-Isolated POL; Vin(Max)(V): 3.65; Vin(Min)(V): 2.95; VO Adjustable: TRUE; Vout(Max)(V): 2.5; Vout(Min)(V): 0.8; DatasheetVersion: SLTS203C; PackageVersion: 4204985-3/E; PackageReference: EUJ10; PackageDescription: 10-Pin Plastic Special Shape, Body 15.75 x 34.8 mm; Supplier 1: Digi-Key; Supplier Part Number 1: 296-20370-ND; Supplier 2: Mouser; Supplier Part Number 2: 595-PTH03010WAS; Mounting Technology: Surface Mount; ComponentLink1Description: Manufacturer URL; ComponentLink1URL: http://www.ti.com/; ComponentLink2Description: Datasheet; ComponentLink2URL: http://www.ti.com/general/docs/lit/getliterature.tsp?genericPartNumber=PTH03010W&fileType=pdf; ComponentLink3Description: Package Specification; ComponentLink3URL: http://www.ti.com/lit/ml/mpds136d/mpds136d.pdf; ComponentLink4Description: URL Link1; ComponentLink4URL: Samples URL:http://www.ti.com/product/pth03010w#samples
footprint TI-EUJ10_V (10-Leads Double Sided Module, Body 34.8x15.75mm)
pins: 1 GND (power) "This is the common ground connection for the Vin and Vout power connections. It is also the 0 VDC reference for the control inputs", 2 VIN (power) "The positive input voltage power node to the module, which is referenced to common GND.", 3 ~{INHIBIT} (in) "The Inhibit pin is an open-collector/drain negative logic input that is referenced to GND. Applying a lowlevel ground signal to this input disables the module’s output and turns off the output voltage. When the Inhibit (See Datasheet)", 4 VO ADJUST (in) "A 0.1 W 1 % resistor must be directly connected between this pin and pin 7 (GND) to set the output voltage to a value higher than 0.8 V. The temperature stability of the resistor should be 100 ppm/degreesC (or better). The (See Datasheet)", 5 VO SENSE (in) "The sense input allows the regulation circuit to compensate for voltage drop between the module and the load. For optimal voltage accuracy Vo Sense should be connected to Vout. It can also be left disconnected.", 6 VOUT (power) "The regulated positive power output with respect to the GND node.", 7 GND (power) "This is the common ground connection for the Vin and Vout power connections. It is also the 0 VDC reference for the control inputs.", 8 TRACK (in) "This is an analog control input that enables the output voltage to follow an external voltage. This pin becomes active typically 20 ms after the input voltage has been applied, and allows direct control of the output voltage (See Datasheet)", 9 ~{MARGIN DOWN} (in) "When this input is asserted to GND, the output voltage is decreased by 5% from the nominal. The input requires an open-collector (open-drain) interface. It is not TTL compatible. A lower percent change can be accomodated (See Datasheet)", 10 ~{MARGIN UP} (in) "When this input is asserted to GND, the output voltage is increased by 5%. The input requires an open-collector (open-drain) interface. It is not TTL compatible. The percent change can be reduced with a series resistor. For (See Datasheet)"